# EAGLE library part MT9D111 (library MT9D111)
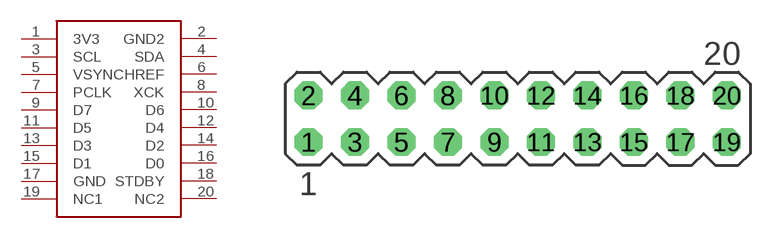
[diagram p0: symbol with the pads of 10-2; footprint 10-2]

Designator prefix -

## MT9D111  [10-2]
1  3V3
2  GND2
3  SCL
4  SDA
5  VSYNC
6  HREF
7  PCLK
8  XCK
9  D7
10  D6
11  D5
12  D4
13  D3
14  D2
15  D1
16  D0
17  GND
18  STDBY
19  NC1
20  NC2

## Footprint 10-2 (pad centres in mm)
drill 1.016 octagon: 1 -11.43,-1.27; 2 -11.43,1.27; 3 -8.89,-1.27; 4 -8.89,1.27; 5 -6.35,-1.27; 6 -6.35,1.27; 7 -3.81,-1.27; 8 -3.81,1.27; 9 -1.27,-1.27; 10 -1.27,1.27; 11 1.27,-1.27; 12 1.27,1.27; 13 3.81,-1.27; 14 3.81,1.27; 15 6.35,-1.27; 16 6.35,1.27; 17 8.89,-1.27; 18 8.89,1.27; 19 11.43,-1.27; 20 11.43,1.27